# Altium schematic symbol library atmel.SCHLIB: 1 symbol
Pins are listed as number, name and electrical type; pins without a type are passive.

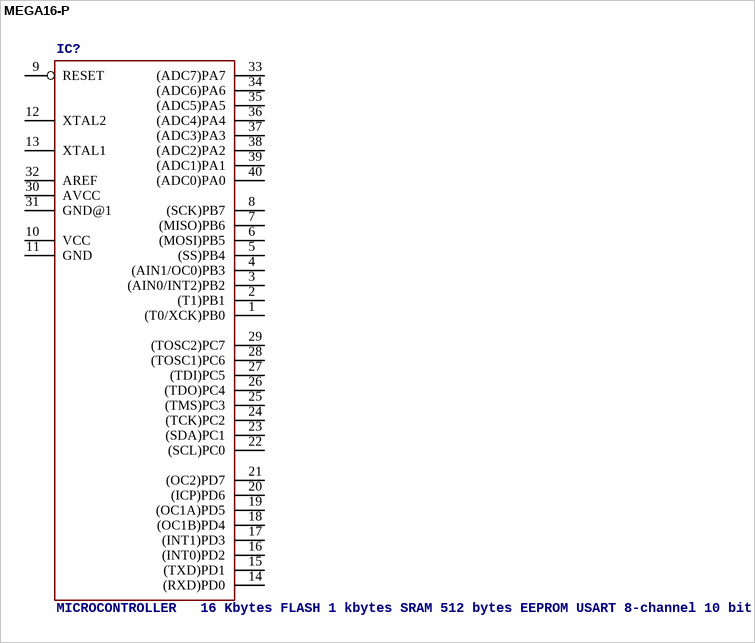
[diagram p0: symbol MEGA16-P]

## MEGA16-P
designator IC?, comment MICROCONTROLLER   16 Kbytes FLASH 1 kbytes SRAM 512 bytes EEPROM USART 8-channel 10 bit ADC   Source: avr.lbr
MPN: ATMEGA16-16PU; OC_FARNELL: 9171142; OC_NEWARK: 01M6885
footprint DIL40
pins: 1 (T0/XCK)PB0, 2 (T1)PB1, 3 (AIN0/INT2)PB2, 4 (AIN1/OC0)PB3, 5 (SS)PB4, 6 (MOSI)PB5, 7 (MISO)PB6, 8 (SCK)PB7, 9 RESET, 10 VCC (power), 11 GND (power), 12 XTAL2, 13 XTAL1, 14 (RXD)PD0, 15 (TXD)PD1, 16 (INT0)PD2, 17 (INT1)PD3, 18 (OC1B)PD4, 19 (OC1A)PD5, 20 (ICP)PD6, 21 (OC2)PD7, 22 (SCL)PC0, 23 (SDA)PC1, 24 (TCK)PC2, 25 (TMS)PC3, 26 (TDO)PC4, 27 (TDI)PC5, 28 (TOSC1)PC6, 29 (TOSC2)PC7, 30 AVCC (power), 31 GND@1 (power), 32 AREF, 33 (ADC7)PA7, 34 (ADC6)PA6, 35 (ADC5)PA5, 36 (ADC4)PA4, 37 (ADC3)PA3, 38 (ADC2)PA2, 39 (ADC1)PA1, 40 (ADC0)PA0